# Altium footprint library Antenna.PcbLib: 3 footprints
Each footprint in its own frame and in the unit in brackets; x right, y up, seen from the top. Pads: shape width x height; smd on the part's side, far side on the other; paste and mask are expansions set on the pad; w line width, h text height; cw(c..) or ccw(c..) is an arc to the next point about the centre after c.
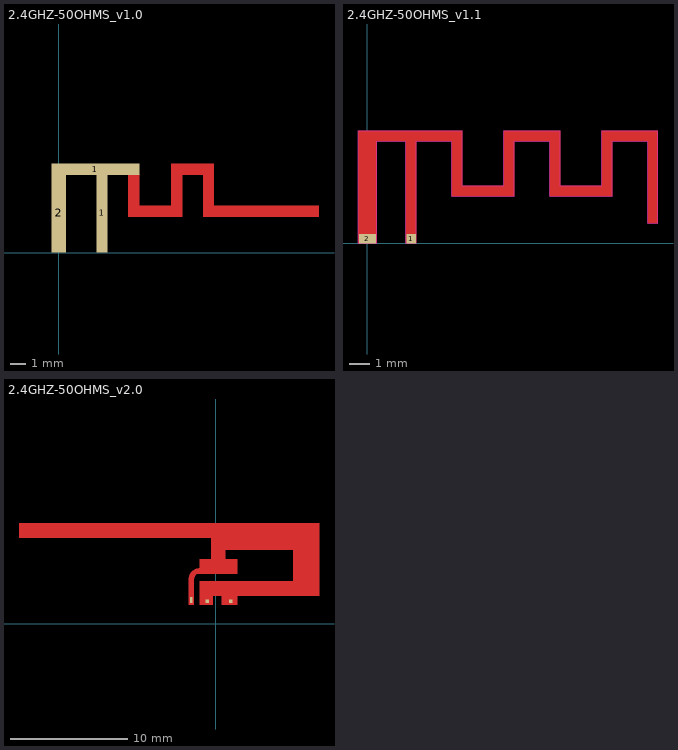
[diagram p0: the footprints below, top view; thin cyan lines are the x and y axes]

## 2.4GHZ-50OHMS_v1.0 [mm]
pads (3):
  rect 5.518x0.711 smd paste+0 mask+0.102: 1(2.309,5.256)
  rect 0.711x5 smd paste+0 mask+0.102: 1(2.724,2.5)
  rect 0.9x5 smd paste+0 mask+0.102: 2(0,2.5)
Top Layer:
  rectangle: 9.652,2.26 16.366,2.971
  rectangle: 9.057,2.26 9.768,4.953
  rectangle: 7.068,4.9 9.768,5.611
  rectangle: 7.068,2.26 7.779,4.953
  rectangle: 4.953,2.26 7.112,2.971
  region: 4.357,4.953 4.357,2.26 5.068,2.26 5.068,4.953
Top Solder:
  rectangle: 4.953,2.26 7.112,2.971
  rectangle: 9.652,2.26 16.366,2.971
  rectangle: 9.057,2.26 9.768,4.953
  rectangle: 7.068,4.9 9.768,5.611
  rectangle: 7.068,2.26 7.779,4.953
  rectangle: -0.45,4.9 5.068,5.611
  region: 4.357,4.953 4.357,2.26 5.068,2.26 5.068,4.953
  region: -0.45,4.953 -0.45,0 0.45,0 0.45,4.953
  region: 2.368,4.953 2.368,0 3.079,0 3.079,4.953

## 2.4GHZ-50OHMS_v1.1 [mm]
pads (2):
  rect 0.45x0.45 smd: 1(2.103,0.229)
  rect 0.8x0.45 smd: 2(0,0.229)
Top Layer:
  region: 13.947,0.963 13.447,0.963 13.447,4.903 11.747,4.903 11.747,2.263 8.747,2.263 8.747,4.903 7.047,4.903 7.047,2.263 4.047,2.263 4.047,4.903 2.347,4.903 2.347,0.003 1.847,0.003 1.847,4.903 0.447,4.903 0.447,0.003 -0.453,0.003 -0.453,5.403 4.547,5.403 4.547,2.763 6.547,2.763 6.547,5.403 9.247,5.403 9.247,2.763 11.247,2.763 11.247,5.403 13.947,5.403
Keep-Out Layer:
  lines w0.01: -0.453,0.003 -0.453,5.403 4.547,5.403 4.547,2.763 6.547,2.763 6.547,5.403 9.247,5.403 9.247,2.763 11.247,2.763 11.247,5.403 13.947,5.403 13.947,0.963 13.447,0.963 13.447,4.903 11.747,4.903 11.747,2.263 8.747,2.263 8.747,4.903 7.047,4.903 7.047,2.263 4.047,2.263 4.047,4.903 2.347,4.903 2.347,0.003 1.847,0.003 1.847,4.903 0.447,4.903 0.447,0.003 -0.453,0.003

## 2.4GHZ-50OHMS_v2.0 [mm]
pads (3):
  rect 0.3x0.3 smd: 1(-0.737,1.93) 1(1.27,1.93)
  rect 0.2x0.5 smd: 2(-2.108,2.032)
Top Layer:
  region: -16.784,7.351 -16.784,8.561 8.796,8.561 8.796,2.391 1.816,2.391 1.816,1.651 0.521,1.651 0.521,2.391 -0.259,2.391 -0.259,1.651 -1.383,1.651 -1.383,3.643 6.596,3.643 6.596,6.313 0.796,6.313 0.796,5.498 1.811,5.498 1.811,4.294 -1.389,4.294 -1.482,4.285 -1.653,4.214 -1.785,4.082 -1.856,3.911 -1.865,3.818 -1.865,1.651 -2.325,1.651 -2.325,3.797 -2.325,3.89 -2.289,4.072 -2.218,4.243 -2.115,4.397 -1.983,4.528 -1.829,4.631 -1.658,4.702 -1.476,4.738 -1.383,4.738 -1.383,4.739 -1.383,5.513 -0.388,5.513 -0.388,7.351